# Altium footprint library NE5532N.PcbLib: 1 footprints
Each footprint in its own frame and in the unit in brackets; x right, y up, seen from the top. Pads: shape width x height; smd on the part's side, far side on the other; paste and mask are expansions set on the pad; w line width, h text height; cw(c..) or ccw(c..) is an arc to the next point about the centre after c.
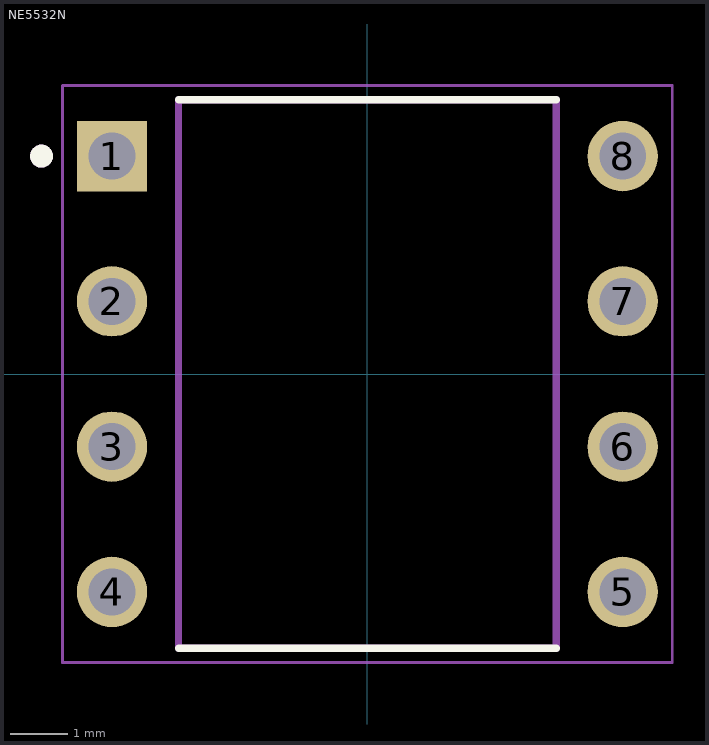
[diagram p0: the footprint, top view; thin cyan lines are the x and y axes]

## NE5532N [mm]
pads (8):
  rect 1.23x1.23 hole 0.82: 1(-4.465,3.81)
  round 1.23 hole 0.82: 2(-4.465,1.27) 3(-4.465,-1.27) 4(-4.465,-3.81) 5(4.465,-3.81) 6(4.465,-1.27) 7(4.465,1.27) 8(4.465,3.81)
Top Overlay:
  circle w0.2: c-5.697,3.81 r0.1
  lines w0.127: -3.303,-4.795 3.303,-4.795 ; -3.303,4.795 3.303,4.795
Mechanical 13:
  circle w0.2: c-5.697,3.81 r0.1
  lines w0.127: -3.303,-4.795 -3.303,4.795 3.303,4.795 3.303,-4.795 -3.303,-4.795
Mechanical 15:
  lines w0.05: -5.334,-5.045 5.32,-5.045 ; -5.33,-5.045 -5.33,5.045 5.323,5.045 ; 5.33,-5.045 5.33,5.045
3D body "NE5532N--3DModel-STEP-56544.STEP": height 5.33, standoff -3.81, extent -5.461,-4.794 5.461,4.794